# Altium footprint library TE_5-146280-5.PcbLib: 1 footprints
Each footprint in its own frame and in the unit in brackets; x right, y up, seen from the top. Pads: shape width x height; smd on the part's side, far side on the other; paste and mask are expansions set on the pad; w line width, h text height; cw(c..) or ccw(c..) is an arc to the next point about the centre after c.
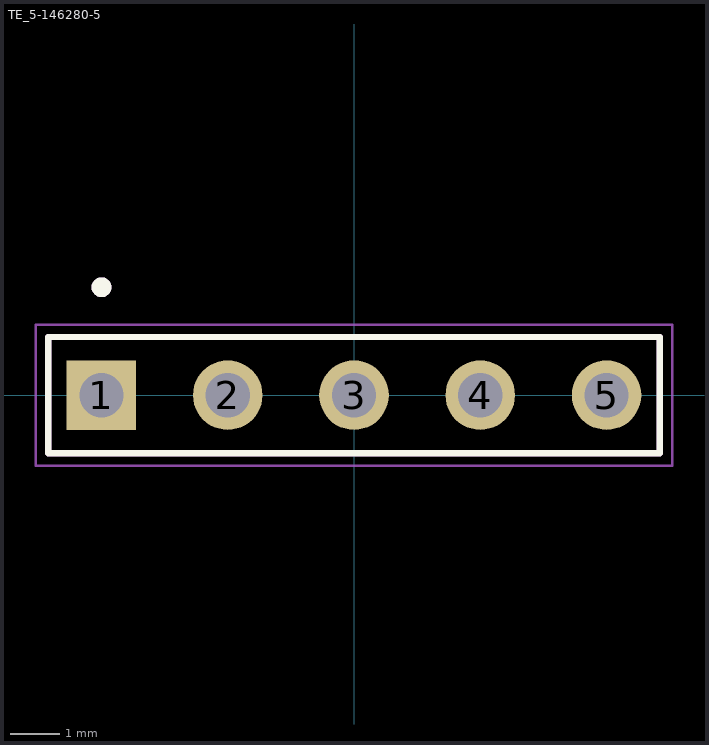
[diagram p0: the footprint, top view; thin cyan lines are the x and y axes]

## TE_5-146280-5 [mm]
pads (5):
  rect 1.398x1.398 / inner round 1.398 / far side rect 1.398x1.398 hole 0.89: 1(-5.08,0)
  round 1.398 hole 0.89: 2(-2.54,0) 3(0,0) 4(2.54,0) 5(5.08,0)
Top Overlay:
  circle w0.2: c-5.08,2.17 r0.1
  lines w0.127: -6.15,-1.17 -6.15,1.17 6.15,1.17 6.15,-1.17 -6.15,-1.17
Mechanical 13:
  circle w0.2: c-5.08,2.17 r0.1
  lines w0.127: -6.15,-1.17 -6.15,1.17 6.15,1.17 6.15,-1.17 -6.15,-1.17
Mechanical 15:
  lines w0.05: -6.4,-1.42 -6.4,1.42 6.4,1.42 6.4,-1.42 -6.4,-1.42
3D body "step_temp.STEP": height 1.17, standoff -1.17, extent -6.147,-5.842 6.147,5.334